# Altium schematic symbol library LM1086CT-5.0_NOPB.SchLib: 1 symbol
Pins are listed as number, name and electrical type; pins without a type are passive.

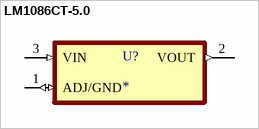
[diagram p0: symbol LM1086CT-5.0]

## LM1086CT-5.0
designator U?
MF: {'manufacturer': u'Texas Instruments'}; MP: LM1086CT-5.0/NOPB; Package: None; Price: None; Value: *; Availability: Unavailable
footprint TO254P1054X470X1955-3
pins: 1 ADJ/GND (io), 2 VOUT (out), 3 VIN (in)